# Altium footprint library HVPSlibrary.PcbLib: 149 footprints (part 6 of 11)
Each footprint in its own frame and in the unit in brackets; x right, y up, seen from the top. Pads: shape width x height; smd on the part's side, far side on the other; paste and mask are expansions set on the pad; w line width, h text height; cw(c..) or ccw(c..) is an arc to the next point about the centre after c.
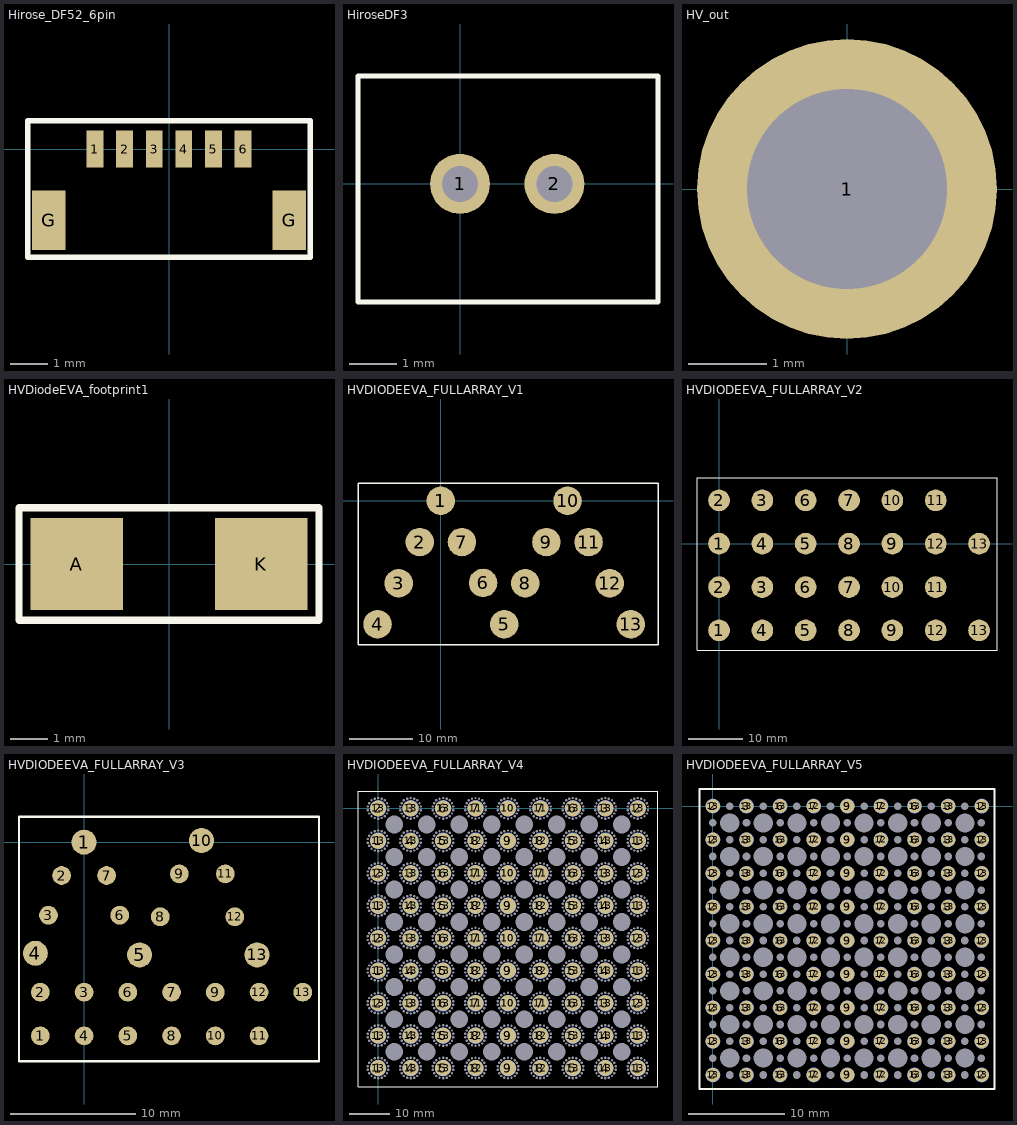
[diagram p5: the footprints below, top view; thin cyan lines are the x and y axes]

## Hirose_DF52_6pin [mm]
pads (8):
  rect 0.45x1 smd: 1(-2,0) 2(-1.2,0) 3(-0.4,0) 4(0.4,0) 5(1.2,0) 6(2,0)
  rect 0.9x1.6 smd: G(-3.25,-1.92) G(3.25,-1.92)
Top Overlay:
  lines w0.152: -3.81,-2.921 3.81,-2.921 3.81,0.762 0.889,0.762 -0.889,0.762 -3.81,0.762 -3.81,-2.921
3D body "DF52-6S-0.8H.stp": height 1.75, standoff 0, extent -3.444,-2.516 3.556,0.254
3D body "DF52-6P-0.8C.stp": height 1.54, standoff -0.11, extent -3.271,-3.81 3.429,-0.61

## HiroseDF3 [mil]
pads (2):
  round 50 hole 30: 1(0,0) 2(78.74,0)
Top Overlay:
  lines w3.94: -85,-98.43 165,-98.43 165,16.38 165,90 -85,90 -85,-98.43
3D body "DF3-2S-2DSA.stp": height 209.1, standoff -141.3, extent -78.11,-95.31 158.11,85

## HV_out [mm] "Output Connection"
pads (1):
  round 3.81 hole 2.54: 1(0,0)

## HVDiodeEVA_footprint1 [mm]
pads (2):
  rect 2.5x2.5 smd: A(-2.5,0) K(2.5,0)
Top Overlay:
  lines w0.2: -4.064,-1.524 -4.064,-0.936 -4.064,1.524 4.064,1.524 4.064,-1.524 -4.064,-1.524

## HVDIODEEVA_FULLARRAY_V1 [mm]
pads (13):
  round 4.5 smd: 1(0,0) 2(-3.333,-6.5) 3(-6.667,-13) 4(-10,-19.5) 5(10,-19.5) 6(6.667,-12.954) 7(3.333,-6.5) 8(13.333,-13) 9(16.667,-6.5) 10(20,0) 11(23.333,-6.5) 12(26.667,-13) 13(30,-19.5)
Top Overlay:
  lines w0.2: -13.081,-22.733 34.29,-22.733 34.29,2.794 -13.081,2.794 -13.081,-22.733
3D body "DO-214AA.stp": height 2.65, standoff 0, extent 11.986,-12.931 17.991,-6.166
3D body "DO-214AA.stp": height 2.65, standoff 0, extent 22.484,-12.528 28.705,-5.703
3D body "Diode SMA.stp": height 2.41, standoff 0, extent -7.501,-12.745 -2.444,-6.712
3D body "Diode SMA.stp": height 2.41, standoff 0, extent -4.834,-6.268 0.223,-0.235
3D body "X150FF3_Diode.STEP": height 2.16, standoff -2.16, extent -5.67,-15.368 5.57,-11.048
3D body "TO-252AA-Vishay.stp": height 2.39, standoff 0, extent 18.247,-23.276 30.521,-12.792
3D body "DO-214AA.stp": height 2.65, standoff 0, extent 14.653,-6.581 20.658,0.184
3D body "TO-252AA-Vishay.stp": height 2.39, standoff 0, extent 8.542,-24.151 20.922,-12.679
3D body "DO-214AA.stp": height 2.65, standoff 0, extent 19.936,-6.362 26.157,0.463
3D body "Diode SMA.stp": height 2.41, standoff 0, extent -0.278,-6.392 4.836,-0.358
3D body "DO-213AB.stp": height 2.6, standoff 0, extent -10.679,-18.866 -5.773,-13.07
3D body "DO-215AD.stp": height 1.35, standoff 0, extent 6.556,-18.348 9.954,-14.164
3D body "DeanTech_UX_F2CL15.STEP": height 2.15, standoff -2.15, extent -8.65,-21.835 8.65,-17.535
3D body "Diode SMA.stp": height 2.41, standoff 0, extent 2.516,-12.742 7.63,-6.708

## HVDIODEEVA_FULLARRAY_V2 [mm]
pads (26):
  round 4 smd: 1(0,-16) 1(0,0) 2(0,-8) 2(0,8) 3(8,-8.002) 3(8,8) 4(8,-16.002) 4(8,0) 5(16,-16.002) 5(16,0) 6(16,-8.002) 6(16,8) 7(24,-8.002) 7(24,8) 8(24,-16.002) 8(24,0) 9(32,-16.002) 9(32,0) 10(32,-8.002) 10(32,8) 11(40,-8.002) 11(40,8) 12(40,-16.002) 12(40,0) 13(48,-16.002) 13(48,0)
Top Overlay:
  lines w0.2: -4.064,-19.685 -4.064,12.192 51.308,12.192 51.308,-19.685 -4.064,-19.685
3D body "TO-252AA-Vishay.stp": height 2.39, standoff 0, extent 32.839,-18.034 39.551,-7.62
3D body "TO-252AA-Vishay.stp": height 2.39, standoff 0, extent 24.33,-17.907 31.042,-7.493
3D body "TO-252AA-Vishay.stp": height 2.39, standoff 0, extent 16.456,-17.78 23.168,-7.366
3D body "TO-252AA-Vishay.stp": height 2.39, standoff 0, extent 8.582,-17.78 15.294,-7.366
3D body "TO-252AA-Vishay.stp": height 2.39, standoff 0, extent 0.454,-17.78 7.166,-7.366
3D body "TO-252AA-Vishay.stp": height 2.39, standoff 0, extent 24.711,-0.381 31.423,10.033
3D body "TO-252AA-Vishay.stp": height 2.39, standoff 0, extent 16.964,-0.381 23.676,10.033
3D body "TO-252AA-Vishay.stp": height 2.39, standoff 0, extent 8.709,-0.635 15.421,9.779
3D body "TO-252AA-Vishay.stp": height 2.39, standoff 0, extent 0.581,-0.508 7.293,9.906
3D body "TO-252AA-Vishay.stp": height 2.39, standoff 0, extent 32.585,-0.508 39.297,9.906

## HVDIODEEVA_FULLARRAY_V3 [mm]
pads (26):
  round 1.5 smd: 1(-3.5,-15.5) 2(-3.5,-12) 2(-1.8,-2.667) 3(-2.85,-5.842) 3(0,-12) 4(0,-15.5) 5(3.5,-15.5) 6(2.85,-5.842) 6(3.5,-12) 7(1.8,-2.667) 7(7,-12) 8(6.096,-5.969) 8(7,-15.5) 9(7.62,-2.54) 9(10.5,-12) 10(10.5,-15.5) 11(11.303,-2.54) 11(14,-15.5) 12(12.065,-5.969) 12(14,-12) 13(17.5,-12)
  round 2 smd: 1(0,0) 4(-3.9,-8.89) 5(4.445,-9.017) 10(9.398,0.127) 13(13.843,-9.017)
Top Overlay:
  lines w0.2: -5.207,-17.526 -5.207,2.032 18.796,2.032 18.796,-17.526 -5.207,-17.526
3D body "ROHM_TUMD2SM.STEP": height 0.8, standoff 0, extent 4.034,-12.688 6.634,-11.188
3D body "ROHM_TUMD2SM.STEP": height 0.8, standoff 0, extent -0.75,-15.143 0.75,-12.543
3D body "DO-215AD.stp": height 1.35, standoff 0, extent 11.781,-10.212 14.533,-6.033
3D body "DO-215AD.stp": height 1.35, standoff 0, extent 10.627,-6.779 13.378,-2.6
3D body "DO-215AD.stp": height 1.35, standoff 0, extent 9.357,-2.969 12.108,1.21
3D body "DO-215AD.stp": height 1.35, standoff 0, extent 6.736,-3.034 9.904,1.174
3D body "DO-215AD.stp": height 1.35, standoff 0, extent 5.212,-6.463 8.38,-2.255
3D body "ROHM_TUMD2SM.STEP": height 0.8, standoff 0, extent -3.078,-12.688 -0.478,-11.188
3D body "ROHM_TUMD2SM.STEP": height 0.8, standoff 0, extent -4.306,-15.27 -2.806,-12.67
3D body "ROHM_TUMD2SM.STEP": height 0.8, standoff 0, extent 2.806,-15.143 4.306,-12.543
3D body "ROHM_TUMD2SM.STEP": height 0.8, standoff 0, extent 2.247,-8.852 4.611,-5.88
3D body "ROHM_TUMD2SM.STEP": height 0.8, standoff 0, extent 1.189,-5.78 3.383,-2.855
3D body "ROHM_TUMD2SM.STEP": height 0.8, standoff 0, extent -4.521,-8.842 -2.222,-5.885
3D body "ROHM_TUMD2SM.STEP": height 0.8, standoff 0, extent -0.143,-2.897 2.429,0.104
3D body "ROHM_TUMD2SM.STEP": height 0.8, standoff 0, extent -3.401,-5.659 -1.171,-2.723
3D body "ROHM_TUMD2SM.STEP": height 0.8, standoff 0, extent -2.387,-2.894 0.101,0.1
3D body "DO-215AD.stp": height 1.35, standoff 0, extent 3.657,-9.716 7.011,-5.524
3D body "ROHM_TUMD2SM.STEP": height 0.8, standoff 0, extent 6.235,-15.143 7.735,-12.543
3D body "DO-215AD.stp": height 1.35, standoff 0, extent 9.657,-15.654 11.357,-11.804
3D body "DO-215AD.stp": height 1.35, standoff 0, extent 10.14,-12.661 13.99,-10.961
3D body "DO-215AD.stp": height 1.35, standoff 0, extent 13.086,-15.654 14.786,-11.804

## HVDIODEEVA_FULLARRAY_V4 [mm]
pads (1684):
  round 0.3 hole 0.595 unplated: 0(-2.501,-64.441) 0(-2.501,-63.559) 0(-2.501,-56.441) 0(-2.501,-55.559) 0(-2.501,-48.441) 0(-2.501,-47.559) 0(-2.501,-40.441) 0(-2.501,-39.559) 0(-2.501,-32.441) 0(-2.501,-31.559) 0(-2.501,-24.441) 0(-2.501,-23.559) 0(-2.501,-16.441) 0(-2.501,-15.559) 0(-2.501,-8.441) 0(-2.501,-7.559) 0(-2.501,-0.441) 0(-2.501,0.441) 0(-2.2,-62.73) 0(-2.2,-54.73) 0(-2.2,-46.73) 0(-2.2,-38.73) 0(-2.2,-30.73) 0(-2.2,-22.73) 0(-2.2,-14.73) 0(-2.2,-6.73) 0(-2.2,1.27) 0(-2.2,-65.27) 0(-2.2,-57.27) 0(-2.2,-49.27) 0(-2.2,-41.27) 0(-2.2,-33.27) 0(-2.2,-25.27) 0(-2.2,-17.27) 0(-2.2,-9.27) 0(-2.2,-1.27) 0(-1.633,-62.054) 0(-1.633,-54.054) 0(-1.633,-46.054) 0(-1.633,-38.054) 0(-1.633,-30.054) 0(-1.633,-22.054) 0(-1.633,-14.054) 0(-1.633,-6.054) 0(-1.633,1.946) 0(-1.633,-65.946) 0(-1.633,-57.946) 0(-1.633,-49.946) 0(-1.633,-41.946) 0(-1.633,-33.946) 0(-1.633,-25.946) 0(-1.633,-17.946) 0(-1.633,-9.946) 0(-1.633,-1.946) 0(-0.869,-61.613) 0(-0.869,-53.613) 0(-0.869,-45.613) 0(-0.869,-37.613) 0(-0.869,-29.613) 0(-0.869,-21.613) 0(-0.869,-13.613) 0(-0.869,-5.613) 0(-0.869,2.387) 0(-0.869,-66.387) 0(-0.869,-58.387) 0(-0.869,-50.387) 0(-0.869,-42.387) 0(-0.869,-34.387) 0(-0.869,-26.387) 0(-0.869,-18.387) 0(-0.869,-10.387) 0(-0.869,-2.387) 0(0,-61.46) 0(0,-53.46) 0(0,-45.46) 0(0,-37.46) 0(0,-29.46) 0(0,-21.46) 0(0,-13.46) 0(0,-5.46) 0(0,2.54) 0(0,-66.54) 0(0,-58.54) 0(0,-50.54) 0(0,-42.54) 0(0,-34.54) 0(0,-26.54) 0(0,-18.54) 0(0,-10.54) 0(0,-2.54) 0(0.869,-61.613) 0(0.869,-53.613) 0(0.869,-45.613) 0(0.869,-37.613) 0(0.869,-29.613) 0(0.869,-21.613) 0(0.869,-13.613) 0(0.869,-5.613) 0(0.869,2.387) 0(0.869,-66.387) 0(0.869,-58.387) 0(0.869,-50.387) 0(0.869,-42.387) 0(0.869,-34.387) 0(0.869,-26.387) 0(0.869,-18.387) 0(0.869,-10.387) 0(0.869,-2.387) 0(1.633,-62.054) 0(1.633,-54.054) 0(1.633,-46.054) 0(1.633,-38.054) 0(1.633,-30.054) 0(1.633,-22.054) 0(1.633,-14.054) 0(1.633,-6.054) 0(1.633,1.946) 0(1.633,-65.946) 0(1.633,-57.946) 0(1.633,-49.946) 0(1.633,-41.946) 0(1.633,-33.946) 0(1.633,-25.946) 0(1.633,-17.946) 0(1.633,-9.946) 0(1.633,-1.946) 0(2.2,-62.73) 0(2.2,-54.73) 0(2.2,-46.73) 0(2.2,-38.73) 0(2.2,-30.73) 0(2.2,-22.73) 0(2.2,-14.73) 0(2.2,-6.73) 0(2.2,1.27) 0(2.2,-65.27) 0(2.2,-57.27) 0(2.2,-49.27) 0(2.2,-41.27) 0(2.2,-33.27) 0(2.2,-25.27) 0(2.2,-17.27) 0(2.2,-9.27) 0(2.2,-1.27) 0(2.501,-64.441) 0(2.501,-63.559) 0(2.501,-56.441) 0(2.501,-55.559) 0(2.501,-48.441) 0(2.501,-47.559) 0(2.501,-40.441) 0(2.501,-39.559) 0(2.501,-32.441) 0(2.501,-31.559) 0(2.501,-24.441) 0(2.501,-23.559) 0(2.501,-16.441) 0(2.501,-15.559) 0(2.501,-8.441) 0(2.501,-7.559) 0(2.501,-0.441) 0(2.501,0.441) 0(5.499,-64.441) 0(5.499,-63.559) 0(5.499,-56.441) 0(5.499,-55.559) 0(5.499,-48.441) 0(5.499,-47.559) 0(5.499,-40.441) 0(5.499,-39.559) 0(5.499,-32.441) 0(5.499,-31.559) 0(5.499,-24.441) 0(5.499,-23.559) 0(5.499,-16.441) 0(5.499,-15.559) 0(5.499,-8.441) 0(5.499,-7.559) 0(5.499,-0.441) 0(5.499,0.441) 0(5.8,-62.73) 0(5.8,-54.73) 0(5.8,-46.73) 0(5.8,-38.73) 0(5.8,-30.73) 0(5.8,-22.73) 0(5.8,-14.73) 0(5.8,-6.73) 0(5.8,1.27) 0(5.8,-65.27) 0(5.8,-57.27) 0(5.8,-49.27) 0(5.8,-41.27) 0(5.8,-33.27) 0(5.8,-25.27) 0(5.8,-17.27) 0(5.8,-9.27) 0(5.8,-1.27) 0(6.367,-62.054) 0(6.367,-54.054) 0(6.367,-46.054) 0(6.367,-38.054) 0(6.367,-30.054) 0(6.367,-22.054) 0(6.367,-14.054) 0(6.367,-6.054) 0(6.367,1.946) 0(6.367,-65.946) 0(6.367,-57.946) 0(6.367,-49.946) 0(6.367,-41.946) 0(6.367,-33.946) 0(6.367,-25.946) 0(6.367,-17.946) 0(6.367,-9.946) 0(6.367,-1.946) 0(7.131,-61.613) 0(7.131,-53.613) 0(7.131,-45.613) 0(7.131,-37.613) 0(7.131,-29.613) 0(7.131,-21.613) 0(7.131,-13.613) 0(7.131,-5.613) 0(7.131,2.387) 0(7.131,-66.387) 0(7.131,-58.387) 0(7.131,-50.387) 0(7.131,-42.387) 0(7.131,-34.387) 0(7.131,-26.387) 0(7.131,-18.387) 0(7.131,-10.387) 0(7.131,-2.387) 0(8,-61.46) 0(8,-53.46) 0(8,-45.46) 0(8,-37.46) 0(8,-29.46) 0(8,-21.46) 0(8,-13.46) 0(8,-5.46) 0(8,2.54) 0(8,-66.54) 0(8,-58.54) 0(8,-50.54) 0(8,-42.54) 0(8,-34.54) 0(8,-26.54) 0(8,-18.54) 0(8,-10.54) 0(8,-2.54) 0(8.869,-61.613) 0(8.869,-53.613) 0(8.869,-45.613) 0(8.869,-37.613) 0(8.869,-29.613) 0(8.869,-21.613) 0(8.869,-13.613) 0(8.869,-5.613) 0(8.869,2.387) 0(8.869,-66.387) 0(8.869,-58.387) 0(8.869,-50.387) 0(8.869,-42.387) 0(8.869,-34.387) 0(8.869,-26.387) 0(8.869,-18.387) 0(8.869,-10.387) 0(8.869,-2.387) 0(9.633,-62.054) 0(9.633,-54.054) 0(9.633,-46.054) 0(9.633,-38.054) 0(9.633,-30.054) 0(9.633,-22.054) 0(9.633,-14.054) 0(9.633,-6.054) 0(9.633,1.946) 0(9.633,-65.946) 0(9.633,-57.946) 0(9.633,-49.946) 0(9.633,-41.946) 0(9.633,-33.946) 0(9.633,-25.946) 0(9.633,-17.946) 0(9.633,-9.946) 0(9.633,-1.946) 0(10.2,-62.73) 0(10.2,-54.73) 0(10.2,-46.73) 0(10.2,-38.73) 0(10.2,-30.73) 0(10.2,-22.73) 0(10.2,-14.73) 0(10.2,-6.73) 0(10.2,1.27) 0(10.2,-65.27) 0(10.2,-57.27) 0(10.2,-49.27) 0(10.2,-41.27) 0(10.2,-33.27) 0(10.2,-25.27) 0(10.2,-17.27) 0(10.2,-9.27) 0(10.2,-1.27) 0(10.501,-64.441) 0(10.501,-63.559) 0(10.501,-56.441) 0(10.501,-55.559) 0(10.501,-48.441) 0(10.501,-47.559) 0(10.501,-40.441) 0(10.501,-39.559) 0(10.501,-32.441) 0(10.501,-31.559) 0(10.501,-24.441) 0(10.501,-23.559) 0(10.501,-16.441) 0(10.501,-15.559) 0(10.501,-8.441) 0(10.501,-7.559) 0(10.501,-0.441) 0(10.501,0.441) 0(13.499,-64.441) 0(13.499,-63.559) 0(13.499,-56.441) 0(13.499,-55.559) 0(13.499,-48.441) 0(13.499,-47.559) 0(13.499,-40.441) 0(13.499,-39.559) 0(13.499,-32.441) 0(13.499,-31.559) 0(13.499,-24.441) 0(13.499,-23.559) 0(13.499,-16.441) 0(13.499,-15.559) 0(13.499,-8.441) 0(13.499,-7.559) 0(13.499,-0.441) 0(13.499,0.441) 0(13.8,-62.73) 0(13.8,-54.73) 0(13.8,-46.73) 0(13.8,-38.73) 0(13.8,-30.73) 0(13.8,-22.73) 0(13.8,-14.73) 0(13.8,-6.73) 0(13.8,1.27) 0(13.8,-65.27) 0(13.8,-57.27) 0(13.8,-49.27) 0(13.8,-41.27) 0(13.8,-33.27) 0(13.8,-25.27) 0(13.8,-17.27) 0(13.8,-9.27) 0(13.8,-1.27) 0(14.367,-62.054) 0(14.367,-54.054) 0(14.367,-46.054) 0(14.367,-38.054) 0(14.367,-30.054) 0(14.367,-22.054) 0(14.367,-14.054) 0(14.367,-6.054) 0(14.367,1.946) 0(14.367,-65.946) 0(14.367,-57.946) 0(14.367,-49.946) 0(14.367,-41.946) 0(14.367,-33.946) 0(14.367,-25.946) 0(14.367,-17.946) 0(14.367,-9.946) 0(14.367,-1.946) 0(15.131,-61.613) 0(15.131,-53.613) 0(15.131,-45.613) 0(15.131,-37.613) 0(15.131,-29.613) 0(15.131,-21.613) 0(15.131,-13.613) 0(15.131,-5.613) 0(15.131,2.387) 0(15.131,-66.387) 0(15.131,-58.387) 0(15.131,-50.387) 0(15.131,-42.387) 0(15.131,-34.387) 0(15.131,-26.387) 0(15.131,-18.387) 0(15.131,-10.387) 0(15.131,-2.387) 0(16,-61.46) 0(16,-53.46) 0(16,-45.46) 0(16,-37.46) 0(16,-29.46) 0(16,-21.46) 0(16,-13.46) 0(16,-5.46) 0(16,2.54) 0(16,-66.54) 0(16,-58.54) 0(16,-50.54) 0(16,-42.54) 0(16,-34.54) 0(16,-26.54) 0(16,-18.54) 0(16,-10.54) 0(16,-2.54) 0(16.869,-61.613) 0(16.869,-53.613) 0(16.869,-45.613) 0(16.869,-37.613) 0(16.869,-29.613) 0(16.869,-21.613) 0(16.869,-13.613) 0(16.869,-5.613) 0(16.869,2.387) 0(16.869,-66.387) 0(16.869,-58.387) 0(16.869,-50.387) 0(16.869,-42.387) 0(16.869,-34.387) 0(16.869,-26.387) 0(16.869,-18.387) 0(16.869,-10.387) 0(16.869,-2.387) 0(17.633,-62.054) 0(17.633,-54.054) 0(17.633,-46.054) 0(17.633,-38.054) 0(17.633,-30.054) 0(17.633,-22.054) 0(17.633,-14.054) 0(17.633,-6.054) 0(17.633,1.946) 0(17.633,-65.946) 0(17.633,-57.946) 0(17.633,-49.946) 0(17.633,-41.946) 0(17.633,-33.946) 0(17.633,-25.946) 0(17.633,-17.946) 0(17.633,-9.946) 0(17.633,-1.946) 0(18.2,-62.73) 0(18.2,-54.73) 0(18.2,-46.73) 0(18.2,-38.73) 0(18.2,-30.73) 0(18.2,-22.73) 0(18.2,-14.73) 0(18.2,-6.73) 0(18.2,1.27) 0(18.2,-65.27) 0(18.2,-57.27) 0(18.2,-49.27) 0(18.2,-41.27) 0(18.2,-33.27) 0(18.2,-25.27) 0(18.2,-17.27) 0(18.2,-9.27) 0(18.2,-1.27) 0(18.501,-64.441) 0(18.501,-63.559) 0(18.501,-56.441) 0(18.501,-55.559) 0(18.501,-48.441) 0(18.501,-47.559) 0(18.501,-40.441) 0(18.501,-39.559) 0(18.501,-32.441) 0(18.501,-31.559) 0(18.501,-24.441) 0(18.501,-23.559) 0(18.501,-16.441) 0(18.501,-15.559) 0(18.501,-8.441) 0(18.501,-7.559) 0(18.501,-0.441) 0(18.501,0.441) 0(21.499,-64.441) 0(21.499,-63.559) 0(21.499,-56.441) 0(21.499,-55.559) 0(21.499,-48.441) 0(21.499,-47.559) 0(21.499,-40.441) 0(21.499,-39.559) 0(21.499,-32.441) 0(21.499,-31.559) 0(21.499,-24.441) 0(21.499,-23.559) 0(21.499,-16.441) 0(21.499,-15.559) 0(21.499,-8.441) 0(21.499,-7.559) 0(21.499,-0.441) 0(21.499,0.441) 0(21.8,-62.73) 0(21.8,-54.73) 0(21.8,-46.73) 0(21.8,-38.73) 0(21.8,-30.73) 0(21.8,-22.73) 0(21.8,-14.73) 0(21.8,-6.73) 0(21.8,1.27) 0(21.8,-65.27) 0(21.8,-57.27) 0(21.8,-49.27) 0(21.8,-41.27) 0(21.8,-33.27) 0(21.8,-25.27) 0(21.8,-17.27) 0(21.8,-9.27) 0(21.8,-1.27) 0(22.367,-62.054) 0(22.367,-54.054) 0(22.367,-46.054) 0(22.367,-38.054) 0(22.367,-30.054) 0(22.367,-22.054) 0(22.367,-14.054) 0(22.367,-6.054) 0(22.367,1.946) 0(22.367,-65.946) 0(22.367,-57.946) 0(22.367,-49.946) 0(22.367,-41.946) 0(22.367,-33.946) 0(22.367,-25.946) 0(22.367,-17.946) 0(22.367,-9.946) 0(22.367,-1.946) 0(23.131,-61.613) 0(23.131,-53.613) 0(23.131,-45.613) 0(23.131,-37.613) 0(23.131,-29.613) 0(23.131,-21.613) 0(23.131,-13.613) 0(23.131,-5.613) 0(23.131,2.387) 0(23.131,-66.387) 0(23.131,-58.387) 0(23.131,-50.387) 0(23.131,-42.387) 0(23.131,-34.387) 0(23.131,-26.387) 0(23.131,-18.387) 0(23.131,-10.387) 0(23.131,-2.387) 0(24,-61.46) 0(24,-53.46) 0(24,-45.46) 0(24,-37.46) 0(24,-29.46) 0(24,-21.46) 0(24,-13.46) 0(24,-5.46) 0(24,2.54) 0(24,-66.54) 0(24,-58.54) 0(24,-50.54) 0(24,-42.54) 0(24,-34.54) 0(24,-26.54) 0(24,-18.54) 0(24,-10.54) 0(24,-2.54) 0(24.869,-61.613) 0(24.869,-53.613) 0(24.869,-45.613) 0(24.869,-37.613) 0(24.869,-29.613) 0(24.869,-21.613) 0(24.869,-13.613) 0(24.869,-5.613) 0(24.869,2.387) 0(24.869,-66.387) 0(24.869,-58.387) 0(24.869,-50.387) 0(24.869,-42.387) 0(24.869,-34.387) 0(24.869,-26.387) 0(24.869,-18.387) 0(24.869,-10.387) 0(24.869,-2.387) 0(25.633,-62.054) 0(25.633,-54.054) 0(25.633,-46.054) 0(25.633,-38.054) 0(25.633,-30.054) 0(25.633,-22.054) 0(25.633,-14.054) 0(25.633,-6.054) 0(25.633,1.946) 0(25.633,-65.946) 0(25.633,-57.946) 0(25.633,-49.946) 0(25.633,-41.946) 0(25.633,-33.946) 0(25.633,-25.946) 0(25.633,-17.946) 0(25.633,-9.946) 0(25.633,-1.946) 0(26.2,-62.73) 0(26.2,-54.73) 0(26.2,-46.73) 0(26.2,-38.73) 0(26.2,-30.73) 0(26.2,-22.73) 0(26.2,-14.73) 0(26.2,-6.73) 0(26.2,1.27) 0(26.2,-65.27) 0(26.2,-57.27) 0(26.2,-49.27) 0(26.2,-41.27) 0(26.2,-33.27) 0(26.2,-25.27) 0(26.2,-17.27) 0(26.2,-9.27) 0(26.2,-1.27) 0(26.501,-64.441) 0(26.501,-63.559) 0(26.501,-56.441) 0(26.501,-55.559) 0(26.501,-48.441) 0(26.501,-47.559) 0(26.501,-40.441) 0(26.501,-39.559) 0(26.501,-32.441) 0(26.501,-31.559) 0(26.501,-24.441) 0(26.501,-23.559) 0(26.501,-16.441) 0(26.501,-15.559) 0(26.501,-8.441) 0(26.501,-7.559) 0(26.501,-0.441) 0(26.501,0.441) 0(29.499,-64.441) 0(29.499,-63.559) 0(29.499,-56.441) 0(29.499,-55.559) 0(29.499,-48.441) 0(29.499,-47.559) 0(29.499,-40.441) 0(29.499,-39.559) 0(29.499,-32.441) 0(29.499,-31.559) 0(29.499,-24.441) 0(29.499,-23.559) 0(29.499,-16.441) 0(29.499,-15.559) 0(29.499,-8.441) 0(29.499,-7.559) 0(29.499,-0.441) 0(29.499,0.441) 0(29.8,-62.73) 0(29.8,-54.73) 0(29.8,-46.73) 0(29.8,-38.73) 0(29.8,-30.73) 0(29.8,-22.73) 0(29.8,-14.73) 0(29.8,-6.73) 0(29.8,1.27) 0(29.8,-65.27) 0(29.8,-57.27) 0(29.8,-49.27) 0(29.8,-41.27) 0(29.8,-33.27) 0(29.8,-25.27) 0(29.8,-17.27) 0(29.8,-9.27) 0(29.8,-1.27) 0(30.367,-62.054) 0(30.367,-54.054) 0(30.367,-46.054) 0(30.367,-38.054) 0(30.367,-30.054) 0(30.367,-22.054) 0(30.367,-14.054) 0(30.367,-6.054) 0(30.367,1.946) 0(30.367,-65.946) 0(30.367,-57.946) 0(30.367,-49.946) 0(30.367,-41.946) 0(30.367,-33.946) 0(30.367,-25.946) 0(30.367,-17.946) 0(30.367,-9.946) 0(30.367,-1.946) 0(31.131,-61.613) 0(31.131,-53.613) 0(31.131,-45.613) 0(31.131,-37.613) 0(31.131,-29.613) 0(31.131,-21.613) 0(31.131,-13.613) 0(31.131,-5.613) 0(31.131,2.387) 0(31.131,-66.387) 0(31.131,-58.387) 0(31.131,-50.387) 0(31.131,-42.387) 0(31.131,-34.387) 0(31.131,-26.387) 0(31.131,-18.387) 0(31.131,-10.387) 0(31.131,-2.387) 0(32,-61.46) 0(32,-53.46) 0(32,-45.46) 0(32,-37.46) 0(32,-29.46) 0(32,-21.46) 0(32,-13.46) 0(32,-5.46) 0(32,2.54) 0(32,-66.54) 0(32,-58.54) 0(32,-50.54) 0(32,-42.54) 0(32,-34.54) 0(32,-26.54) 0(32,-18.54) 0(32,-10.54) 0(32,-2.54) 0(32.869,-61.613) 0(32.869,-53.613) 0(32.869,-45.613) 0(32.869,-37.613) 0(32.869,-29.613) 0(32.869,-21.613) 0(32.869,-13.613) 0(32.869,-5.613) 0(32.869,2.387) 0(32.869,-66.387) 0(32.869,-58.387) 0(32.869,-50.387) 0(32.869,-42.387) 0(32.869,-34.387) 0(32.869,-26.387) 0(32.869,-18.387) 0(32.869,-10.387) 0(32.869,-2.387) 0(33.633,-62.054) 0(33.633,-54.054) 0(33.633,-46.054) 0(33.633,-38.054) 0(33.633,-30.054) 0(33.633,-22.054) 0(33.633,-14.054) 0(33.633,-6.054) 0(33.633,1.946) 0(33.633,-65.946) 0(33.633,-57.946) 0(33.633,-49.946) 0(33.633,-41.946) 0(33.633,-33.946) 0(33.633,-25.946) 0(33.633,-17.946) 0(33.633,-9.946) 0(33.633,-1.946) 0(34.2,-62.73) 0(34.2,-54.73) 0(34.2,-46.73) 0(34.2,-38.73) 0(34.2,-30.73) 0(34.2,-22.73) 0(34.2,-14.73) 0(34.2,-6.73) 0(34.2,1.27) 0(34.2,-65.27) 0(34.2,-57.27) 0(34.2,-49.27) 0(34.2,-41.27) 0(34.2,-33.27) 0(34.2,-25.27) 0(34.2,-17.27) 0(34.2,-9.27) 0(34.2,-1.27) 0(34.501,-64.441) 0(34.501,-63.559) 0(34.501,-56.441) 0(34.501,-55.559) 0(34.501,-48.441) 0(34.501,-47.559) 0(34.501,-40.441) 0(34.501,-39.559) 0(34.501,-32.441) 0(34.501,-31.559) 0(34.501,-24.441) 0(34.501,-23.559) 0(34.501,-16.441) 0(34.501,-15.559) 0(34.501,-8.441) 0(34.501,-7.559) 0(34.501,-0.441) 0(34.501,0.441) 0(37.499,-64.441) 0(37.499,-63.559) 0(37.499,-56.441) 0(37.499,-55.559) 0(37.499,-48.441) 0(37.499,-47.559) 0(37.499,-40.441) 0(37.499,-39.559) 0(37.499,-32.441) 0(37.499,-31.559) 0(37.499,-24.441) 0(37.499,-23.559) 0(37.499,-16.441) 0(37.499,-15.559) 0(37.499,-8.441) 0(37.499,-7.559) 0(37.499,-0.441) 0(37.499,0.441) 0(37.8,-62.73) 0(37.8,-54.73) 0(37.8,-46.73) 0(37.8,-38.73) 0(37.8,-30.73) 0(37.8,-22.73) 0(37.8,-14.73) 0(37.8,-6.73) 0(37.8,1.27) 0(37.8,-65.27) 0(37.8,-57.27) 0(37.8,-49.27) 0(37.8,-41.27) 0(37.8,-33.27) 0(37.8,-25.27) 0(37.8,-17.27) 0(37.8,-9.27) 0(37.8,-1.27) 0(38.367,-62.054) 0(38.367,-54.054) 0(38.367,-46.054) 0(38.367,-38.054) 0(38.367,-30.054) 0(38.367,-22.054) 0(38.367,-14.054) 0(38.367,-6.054) 0(38.367,1.946) 0(38.367,-65.946) 0(38.367,-57.946) 0(38.367,-49.946) 0(38.367,-41.946) 0(38.367,-33.946) 0(38.367,-25.946) 0(38.367,-17.946) 0(38.367,-9.946) 0(38.367,-1.946) 0(39.131,-61.613) 0(39.131,-53.613) 0(39.131,-45.613) 0(39.131,-37.613) 0(39.131,-29.613) 0(39.131,-21.613) 0(39.131,-13.613) 0(39.131,-5.613) 0(39.131,2.387) 0(39.131,-66.387) 0(39.131,-58.387) 0(39.131,-50.387) 0(39.131,-42.387) 0(39.131,-34.387) 0(39.131,-26.387) 0(39.131,-18.387) 0(39.131,-10.387) 0(39.131,-2.387) 0(40,-61.46) 0(40,-53.46) 0(40,-45.46) 0(40,-37.46) 0(40,-29.46) 0(40,-21.46) 0(40,-13.46) 0(40,-5.46) 0(40,2.54) 0(40,-66.54) 0(40,-58.54) 0(40,-50.54) 0(40,-42.54) 0(40,-34.54) 0(40,-26.54) 0(40,-18.54) 0(40,-10.54) 0(40,-2.54) 0(40.869,-61.613) 0(40.869,-53.613) 0(40.869,-45.613) 0(40.869,-37.613) 0(40.869,-29.613) 0(40.869,-21.613) 0(40.869,-13.613) 0(40.869,-5.613) 0(40.869,2.387) 0(40.869,-66.387) 0(40.869,-58.387) 0(40.869,-50.387) 0(40.869,-42.387) 0(40.869,-34.387) 0(40.869,-26.387) 0(40.869,-18.387) 0(40.869,-10.387) 0(40.869,-2.387) 0(41.633,-62.054) 0(41.633,-54.054) 0(41.633,-46.054) 0(41.633,-38.054) 0(41.633,-30.054) 0(41.633,-22.054) 0(41.633,-14.054) 0(41.633,-6.054) 0(41.633,1.946) 0(41.633,-65.946) 0(41.633,-57.946) 0(41.633,-49.946) 0(41.633,-41.946) 0(41.633,-33.946) 0(41.633,-25.946) 0(41.633,-17.946) 0(41.633,-9.946) 0(41.633,-1.946) 0(42.2,-62.73) 0(42.2,-54.73) 0(42.2,-46.73) 0(42.2,-38.73) 0(42.2,-30.73) 0(42.2,-22.73) 0(42.2,-14.73) 0(42.2,-6.73) 0(42.2,1.27) 0(42.2,-65.27) 0(42.2,-57.27) 0(42.2,-49.27) 0(42.2,-41.27) 0(42.2,-33.27) 0(42.2,-25.27) 0(42.2,-17.27) 0(42.2,-9.27) 0(42.2,-1.27) 0(42.501,-64.441) 0(42.501,-63.559) 0(42.501,-56.441) 0(42.501,-55.559) 0(42.501,-48.441) 0(42.501,-47.559) 0(42.501,-40.441) 0(42.501,-39.559) 0(42.501,-32.441) 0(42.501,-31.559) 0(42.501,-24.441) 0(42.501,-23.559) 0(42.501,-16.441) 0(42.501,-15.559) 0(42.501,-8.441) 0(42.501,-7.559) 0(42.501,-0.441) 0(42.501,0.441) 0(45.499,-64.441) 0(45.499,-63.559) 0(45.499,-56.441) 0(45.499,-55.559) 0(45.499,-48.441) 0(45.499,-47.559) 0(45.499,-40.441) 0(45.499,-39.559) 0(45.499,-32.441) 0(45.499,-31.559) 0(45.499,-24.441) 0(45.499,-23.559) 0(45.499,-16.441) 0(45.499,-15.559) 0(45.499,-8.441) 0(45.499,-7.559) 0(45.499,-0.441) 0(45.499,0.441) 0(45.8,-62.73) 0(45.8,-54.73) 0(45.8,-46.73) 0(45.8,-38.73) 0(45.8,-30.73) 0(45.8,-22.73) 0(45.8,-14.73) 0(45.8,-6.73) 0(45.8,1.27) 0(45.8,-65.27) 0(45.8,-57.27) 0(45.8,-49.27) 0(45.8,-41.27) 0(45.8,-33.27) 0(45.8,-25.27) 0(45.8,-17.27) 0(45.8,-9.27) 0(45.8,-1.27) 0(46.367,-62.054) 0(46.367,-54.054) 0(46.367,-46.054) 0(46.367,-38.054) 0(46.367,-30.054) 0(46.367,-22.054) 0(46.367,-14.054) 0(46.367,-6.054) 0(46.367,1.946) 0(46.367,-65.946) 0(46.367,-57.946) 0(46.367,-49.946) 0(46.367,-41.946) 0(46.367,-33.946) 0(46.367,-25.946) 0(46.367,-17.946) 0(46.367,-9.946) 0(46.367,-1.946) 0(47.131,-61.613) 0(47.131,-53.613) 0(47.131,-45.613) 0(47.131,-37.613) 0(47.131,-29.613) 0(47.131,-21.613) 0(47.131,-13.613) 0(47.131,-5.613) 0(47.131,2.387) 0(47.131,-66.387) 0(47.131,-58.387) 0(47.131,-50.387) 0(47.131,-42.387) 0(47.131,-34.387) 0(47.131,-26.387) 0(47.131,-18.387) 0(47.131,-10.387) 0(47.131,-2.387) 0(48,-61.46) 0(48,-53.46) 0(48,-45.46) 0(48,-37.46) 0(48,-29.46) 0(48,-21.46) 0(48,-13.46) 0(48,-5.46) 0(48,2.54) 0(48,-66.54) 0(48,-58.54) 0(48,-50.54) 0(48,-42.54) 0(48,-34.54) 0(48,-26.54) 0(48,-18.54) 0(48,-10.54) 0(48,-2.54) 0(48.869,-61.613) 0(48.869,-53.613) 0(48.869,-45.613) 0(48.869,-37.613) 0(48.869,-29.613) 0(48.869,-21.613) 0(48.869,-13.613) 0(48.869,-5.613) 0(48.869,2.387) 0(48.869,-66.387) 0(48.869,-58.387) 0(48.869,-50.387) 0(48.869,-42.387) 0(48.869,-34.387) 0(48.869,-26.387) 0(48.869,-18.387) 0(48.869,-10.387) 0(48.869,-2.387) 0(49.633,-62.054) 0(49.633,-54.054) 0(49.633,-46.054) 0(49.633,-38.054) 0(49.633,-30.054) 0(49.633,-22.054) 0(49.633,-14.054) 0(49.633,-6.054) 0(49.633,1.946) 0(49.633,-65.946) 0(49.633,-57.946) 0(49.633,-49.946) 0(49.633,-41.946) 0(49.633,-33.946) 0(49.633,-25.946) 0(49.633,-17.946) 0(49.633,-9.946) 0(49.633,-1.946) 0(50.2,-62.73) 0(50.2,-54.73) 0(50.2,-46.73) 0(50.2,-38.73) 0(50.2,-30.73) 0(50.2,-22.73) 0(50.2,-14.73) 0(50.2,-6.73) 0(50.2,1.27) 0(50.2,-65.27) 0(50.2,-57.27) 0(50.2,-49.27) 0(50.2,-41.27) 0(50.2,-33.27) 0(50.2,-25.27) 0(50.2,-17.27) 0(50.2,-9.27) 0(50.2,-1.27) 0(50.501,-64.441) 0(50.501,-63.559) 0(50.501,-56.441) 0(50.501,-55.559) 0(50.501,-48.441) 0(50.501,-47.559) 0(50.501,-40.441) 0(50.501,-39.559) 0(50.501,-32.441) 0(50.501,-31.559) 0(50.501,-24.441) 0(50.501,-23.559) 0(50.501,-16.441) 0(50.501,-15.559) 0(50.501,-8.441) 0(50.501,-7.559) 0(50.501,-0.441) 0(50.501,0.441) 0(53.499,-64.441) 0(53.499,-63.559) 0(53.499,-56.441) 0(53.499,-55.559) 0(53.499,-48.441) 0(53.499,-47.559) 0(53.499,-40.441) 0(53.499,-39.559) 0(53.499,-32.441) 0(53.499,-31.559) 0(53.499,-24.441) 0(53.499,-23.559) 0(53.499,-16.441) 0(53.499,-15.559) 0(53.499,-8.441) 0(53.499,-7.559) 0(53.499,-0.441) 0(53.499,0.441) 0(53.8,-62.73) 0(53.8,-54.73) 0(53.8,-46.73) 0(53.8,-38.73) 0(53.8,-30.73) 0(53.8,-22.73) 0(53.8,-14.73) 0(53.8,-6.73) 0(53.8,1.27) 0(53.8,-65.27) 0(53.8,-57.27) 0(53.8,-49.27) 0(53.8,-41.27) 0(53.8,-33.27) 0(53.8,-25.27) 0(53.8,-17.27) 0(53.8,-9.27) 0(53.8,-1.27) 0(54.367,-62.054) 0(54.367,-54.054) 0(54.367,-46.054) 0(54.367,-38.054) 0(54.367,-30.054) 0(54.367,-22.054) 0(54.367,-14.054) 0(54.367,-6.054) 0(54.367,1.946) 0(54.367,-65.946) 0(54.367,-57.946) 0(54.367,-49.946) 0(54.367,-41.946) 0(54.367,-33.946) 0(54.367,-25.946) 0(54.367,-17.946) 0(54.367,-9.946) 0(54.367,-1.946) 0(55.131,-61.613) 0(55.131,-53.613) 0(55.131,-45.613) 0(55.131,-37.613) 0(55.131,-29.613) 0(55.131,-21.613) 0(55.131,-13.613) 0(55.131,-5.613) 0(55.131,2.387) 0(55.131,-66.387) 0(55.131,-58.387) 0(55.131,-50.387) 0(55.131,-42.387) 0(55.131,-34.387) 0(55.131,-26.387) 0(55.131,-18.387) 0(55.131,-10.387) 0(55.131,-2.387) 0(56,-61.46) 0(56,-53.46) 0(56,-45.46) 0(56,-37.46) 0(56,-29.46) 0(56,-21.46) 0(56,-13.46) 0(56,-5.46) 0(56,2.54) 0(56,-66.54) 0(56,-58.54) 0(56,-50.54) 0(56,-42.54) 0(56,-34.54) 0(56,-26.54) 0(56,-18.54) 0(56,-10.54) 0(56,-2.54) 0(56.869,-61.613) 0(56.869,-53.613) 0(56.869,-45.613) 0(56.869,-37.613) 0(56.869,-29.613) 0(56.869,-21.613) 0(56.869,-13.613) 0(56.869,-5.613) 0(56.869,2.387) 0(56.869,-66.387) 0(56.869,-58.387) 0(56.869,-50.387) 0(56.869,-42.387) 0(56.869,-34.387) 0(56.869,-26.387) 0(56.869,-18.387) 0(56.869,-10.387) 0(56.869,-2.387) 0(57.633,-62.054) 0(57.633,-54.054) 0(57.633,-46.054) 0(57.633,-38.054) 0(57.633,-30.054) 0(57.633,-22.054) 0(57.633,-14.054) 0(57.633,-6.054) 0(57.633,1.946) 0(57.633,-65.946) 0(57.633,-57.946) 0(57.633,-49.946) 0(57.633,-41.946) 0(57.633,-33.946) 0(57.633,-25.946) 0(57.633,-17.946) 0(57.633,-9.946) 0(57.633,-1.946) 0(58.2,-62.73) 0(58.2,-54.73) 0(58.2,-46.73) 0(58.2,-38.73) 0(58.2,-30.73) 0(58.2,-22.73) 0(58.2,-14.73) 0(58.2,-6.73) 0(58.2,1.27) 0(58.2,-65.27) 0(58.2,-57.27) 0(58.2,-49.27) 0(58.2,-41.27) 0(58.2,-33.27) 0(58.2,-25.27) 0(58.2,-17.27) 0(58.2,-9.27) 0(58.2,-1.27) 0(58.501,-64.441) 0(58.501,-63.559) 0(58.501,-56.441) 0(58.501,-55.559) 0(58.501,-48.441) 0(58.501,-47.559) 0(58.501,-40.441) 0(58.501,-39.559) 0(58.501,-32.441) 0(58.501,-31.559) 0(58.501,-24.441) 0(58.501,-23.559) 0(58.501,-16.441) 0(58.501,-15.559) 0(58.501,-8.441) 0(58.501,-7.559) 0(58.501,-0.441) 0(58.501,0.441) 0(61.499,-64.441) 0(61.499,-63.559) 0(61.499,-56.441) 0(61.499,-55.559) 0(61.499,-48.441) 0(61.499,-47.559) 0(61.499,-40.441) 0(61.499,-39.559) 0(61.499,-32.441) 0(61.499,-31.559) 0(61.499,-24.441) 0(61.499,-23.559) 0(61.499,-16.441) 0(61.499,-15.559) 0(61.499,-8.441) 0(61.499,-7.559) 0(61.499,-0.441) 0(61.499,0.441) 0(61.8,-62.73) 0(61.8,-54.73) 0(61.8,-46.73) 0(61.8,-38.73) 0(61.8,-30.73) 0(61.8,-22.73) 0(61.8,-14.73) 0(61.8,-6.73) 0(61.8,1.27) 0(61.8,-65.27) 0(61.8,-57.27) 0(61.8,-49.27) 0(61.8,-41.27) 0(61.8,-33.27) 0(61.8,-25.27) 0(61.8,-17.27) 0(61.8,-9.27) 0(61.8,-1.27) 0(62.367,-62.054) 0(62.367,-54.054) 0(62.367,-46.054) 0(62.367,-38.054) 0(62.367,-30.054) 0(62.367,-22.054) 0(62.367,-14.054) 0(62.367,-6.054) 0(62.367,1.946) 0(62.367,-65.946) 0(62.367,-57.946) 0(62.367,-49.946) 0(62.367,-41.946) 0(62.367,-33.946) 0(62.367,-25.946) 0(62.367,-17.946) 0(62.367,-9.946) 0(62.367,-1.946) 0(63.131,-61.613) 0(63.131,-53.613) 0(63.131,-45.613) 0(63.131,-37.613) 0(63.131,-29.613) 0(63.131,-21.613) 0(63.131,-13.613) 0(63.131,-5.613) 0(63.131,2.387) 0(63.131,-66.387) 0(63.131,-58.387) 0(63.131,-50.387) 0(63.131,-42.387) 0(63.131,-34.387) 0(63.131,-26.387) 0(63.131,-18.387) 0(63.131,-10.387) 0(63.131,-2.387) 0(64,-61.46) 0(64,-53.46) 0(64,-45.46) 0(64,-37.46) 0(64,-29.46) 0(64,-21.46) 0(64,-13.46) 0(64,-5.46) 0(64,2.54) 0(64,-66.54) 0(64,-58.54) 0(64,-50.54) 0(64,-42.54) 0(64,-34.54) 0(64,-26.54) 0(64,-18.54) 0(64,-10.54) 0(64,-2.54) 0(64.869,-61.613) 0(64.869,-53.613) 0(64.869,-45.613) 0(64.869,-37.613) 0(64.869,-29.613) 0(64.869,-21.613) 0(64.869,-13.613) 0(64.869,-5.613) 0(64.869,2.387) 0(64.869,-66.387) 0(64.869,-58.387) 0(64.869,-50.387) 0(64.869,-42.387) 0(64.869,-34.387) 0(64.869,-26.387) 0(64.869,-18.387) 0(64.869,-10.387) 0(64.869,-2.387) 0(65.633,-62.054) 0(65.633,-54.054) 0(65.633,-46.054) 0(65.633,-38.054) 0(65.633,-30.054) 0(65.633,-22.054) 0(65.633,-14.054) 0(65.633,-6.054) 0(65.633,1.946) 0(65.633,-65.946) 0(65.633,-57.946) 0(65.633,-49.946) 0(65.633,-41.946) 0(65.633,-33.946) 0(65.633,-25.946) 0(65.633,-17.946) 0(65.633,-9.946) 0(65.633,-1.946) 0(66.2,-62.73) 0(66.2,-54.73) 0(66.2,-46.73) 0(66.2,-38.73) 0(66.2,-30.73) 0(66.2,-22.73) 0(66.2,-14.73) 0(66.2,-6.73) 0(66.2,1.27) 0(66.2,-65.27) 0(66.2,-57.27) 0(66.2,-49.27) 0(66.2,-41.27) 0(66.2,-33.27) 0(66.2,-25.27) 0(66.2,-17.27) 0(66.2,-9.27) 0(66.2,-1.27) 0(66.501,-64.441) 0(66.501,-63.559) 0(66.501,-56.441) 0(66.501,-55.559) 0(66.501,-48.441) 0(66.501,-47.559) 0(66.501,-40.441) 0(66.501,-39.559) 0(66.501,-32.441) 0(66.501,-31.559) 0(66.501,-24.441) 0(66.501,-23.559) 0(66.501,-16.441) 0(66.501,-15.559) 0(66.501,-8.441) 0(66.501,-7.559) 0(66.501,-0.441) 0(66.501,0.441)
  round 1 hole 4.366 unplated: 0(4,-60) 0(4,-52) 0(4,-44) 0(4,-36) 0(4,-28) 0(4,-20) 0(4,-12) 0(4,-4) 0(12,-60) 0(12,-52) 0(12,-44) 0(12,-36) 0(12,-28) 0(12,-20) 0(12,-12) 0(12,-4) 0(20,-60) 0(20,-52) 0(20,-44) 0(20,-36) 0(20,-28) 0(20,-20) 0(20,-12) 0(20,-4) 0(28,-60) 0(28,-52) 0(28,-44) 0(28,-36) 0(28,-28) 0(28,-20) 0(28,-12) 0(28,-4) 0(36,-60) 0(36,-52) 0(36,-44) 0(36,-36) 0(36,-28) 0(36,-20) 0(36,-12) 0(36,-4) 0(44,-60) 0(44,-52) 0(44,-44) 0(44,-36) 0(44,-28) 0(44,-20) 0(44,-12) 0(44,-4) 0(52,-60) 0(52,-52) 0(52,-44) 0(52,-36) 0(52,-28) 0(52,-20) 0(52,-12) 0(52,-4) 0(60,-60) 0(60,-52) 0(60,-44) 0(60,-36) 0(60,-28) 0(60,-20) 0(60,-12) 0(60,-4)
  round 4 smd: 1(0,-64) 1(0,-56) 1(0,-40) 1(0,-24) 1(0,-8) 2(0,-48) 2(0,-32) 2(0,-16) 2(0,0) 3(8,-48) 3(8,-32) 3(8,-16.002) 3(8,0) 4(8,-64) 4(8,-56) 4(8,-40) 4(8,-24.002) 4(8,-8) 5(16,-64) 5(16,-56) 5(16,-40) 5(16,-24.002) 5(16,-8) 6(16,-48) 6(16,-32) 6(16,0) 6(16,-16.002) 7(24,-48) 7(24,-32) 7(24,0) 7(24,-16.002) 8(24,-64) 8(24,-56) 8(24,-40) 8(24,-24.002) 8(24,-8) 9(32,-64) 9(32,-56) 9(32,-40) 9(32,-24.002) 9(32,-8) 10(32,-48) 10(32,-32) 10(32,0) 10(32,-16.002) 11(40,-48) 11(40,-32) 11(40,0) 11(40,-16.002) 12(40,-64) 12(40,-56) 12(40,-40) 12(40,-24.002) 12(40,-8) 13(48,-64) 13(48,-56) 13(48,-40) 13(48,0) 13(48,-48) 13(48,-32) 13(48,-24.002) 13(48,-16) 13(48,-8) 13(56,0) 13(56,-64) 13(56,-56) 13(56,-48) 13(56,-40) 13(56,-32) 13(56,-24) 13(56,-16) 13(56,-8) 13(64,0) 13(64,-64) 13(64,-56) 13(64,-48) 13(64,-40) 13(64,-32) 13(64,-24) 13(64,-16) 13(64,-8)
  round 4 smd far side: 1(64.002,-64.005) 1(64.002,-56.005) 1(64.002,-40.005) 1(64.002,-24.005) 1(64.002,-8.005) 2(64.002,-48.005) 2(64.002,-32.005) 2(64.002,-16.005) 2(64.002,-0.005) 3(56.002,-48.005) 3(56.002,-32.005) 3(56.002,-16.007) 3(56.002,-0.005) 4(56.002,-64.005) 4(56.002,-56.005) 4(56.002,-40.005) 4(56.002,-24.007) 4(56.002,-8.005) 5(48.002,-24.007) 5(48.002,-8.005) 5(48.002,-64.005) 5(48.002,-56.005) 5(48.002,-40.005) 6(48.002,-16.007) 6(48.002,-48.005) 6(48.002,-32.005) 6(48.002,-0.005) 7(40.002,-16.007) 7(40.002,-48.005) 7(40.002,-32.005) 7(40.002,-0.005) 8(40.002,-24.007) 8(40.002,-8.005) 8(40.002,-64.005) 8(40.002,-56.005) 8(40.002,-40.005) 9(32.002,-24.007) 9(32.002,-8.005) 9(32.002,-64.005) 9(32.002,-56.005) 9(32.002,-40.005) 10(32.002,-16.007) 10(32.002,-48.005) 10(32.002,-32.005) 10(32.002,-0.005) 11(24.002,-16.007) 11(24.002,-48.005) 11(24.002,-32.005) 11(24.002,-0.005) 12(24.002,-24.007) 12(24.002,-8.005) 12(24.002,-64.005) 12(24.002,-56.005) 12(24.002,-40.005) 13(0.002,-64.005) 13(0.002,-56.005) 13(0.002,-48.005) 13(0.002,-40.005) 13(0.002,-32.005) 13(0.002,-24.005) 13(0.002,-16.005) 13(0.002,-8.005) 13(0.002,-0.005) 13(8.002,-64.005) 13(8.002,-56.005) 13(8.002,-48.005) 13(8.002,-40.005) 13(8.002,-32.005) 13(8.002,-24.005) 13(8.002,-16.005) 13(8.002,-8.005) 13(8.002,-0.005) 13(16.002,-48.005) 13(16.002,-32.005) 13(16.002,-24.007) 13(16.002,-16.005) 13(16.002,-8.005) 13(16.002,-64.005) 13(16.002,-56.005) 13(16.002,-40.005) 13(16.002,-0.005)
Top Overlay:
  lines w0.2: -4.953,-68.579 -4.953,4.192 68.961,4.192 68.961,-68.579 -4.953,-68.579
Bottom Overlay:
  lines w0.2: -4.953,-68.58 68.961,-68.58 68.961,4.191 -4.953,4.191 -4.953,-68.58
3D body "DO-214AA.stp": height 2.65, standoff 0, extent 41.142,-66.053 46.742,-62.103
3D body "DO-214AA.stp": height 2.65, standoff 0, extent 32.887,-58.052 38.487,-54.102
3D body "DO-214AA.stp": height 2.65, standoff 0, extent 24.759,-66.18 30.359,-62.23
3D body "DO-214AA.stp": height 2.65, standoff 0, extent 16.758,-58.052 22.358,-54.102
3D body "DO-214AA.stp": height 2.65, standoff 0, extent 9.138,-65.926 14.738,-61.976
3D body "DO-214AA.stp": height 2.65, standoff 0, extent 38.087,-62.871 42.037,-57.271
3D body "DO-214AA.stp": height 2.65, standoff 0, extent 29.705,-63.125 33.655,-57.525
3D body "DO-214AA.stp": height 2.65, standoff 0, extent 21.704,-62.744 25.654,-57.144
3D body "DO-214AA.stp": height 2.65, standoff 0, extent 6.21,-62.744 10.16,-57.144
3D body "DO-214AA.stp": height 2.65, standoff 0, extent 1.01,-57.925 6.61,-53.975
3D body "DO-214AA.stp": height 2.65, standoff 0, extent 53.962,-54.616 57.912,-49.016
3D body "DO-214AA.stp": height 2.65, standoff 0, extent 54.597,-38.868 58.547,-33.268
3D body "DO-214AA.stp": height 2.65, standoff 0, extent 62.09,-46.615 66.04,-41.015
3D body "DO-214AA.stp": height 2.65, standoff 0, extent 62.09,-30.613 66.04,-25.013
3D body "DO-214AA.stp": height 2.65, standoff 0, extent 53.905,-22.883 57.855,-17.283
3D body "DO-214AA.stp": height 2.65, standoff 0, extent 61.779,-14.755 65.729,-9.155
3D body "DO-214AA.stp": height 2.65, standoff 0, extent 49.016,-58.039 54.616,-54.089
3D body "DO-214AA.stp": height 2.65, standoff 0, extent 57.162,-49.981 62.762,-46.031
3D body "DO-214AA.stp": height 2.65, standoff 0, extent 57.035,-41.98 62.635,-38.03
3D body "DO-214AA.stp": height 2.65, standoff 0, extent 57.289,-33.852 62.889,-29.902
3D body "DO-214AA.stp": height 2.65, standoff 0, extent 57.035,-25.724 62.635,-21.774
3D body "DO-214AA.stp": height 2.65, standoff 0, extent 57.289,-18.104 62.889,-14.154
3D body "DO-214AA.stp": height 2.65, standoff 0, extent 57.162,-9.976 62.762,-6.026
3D body "DO-214AA.stp": height 2.65, standoff 0, extent 38.03,-6.754 41.98,-1.154
3D body "DO-214AA.stp": height 2.65, standoff 0, extent 33.159,-1.594 38.759,2.356
3D body "DO-214AA.stp": height 2.65, standoff 0, extent 25.14,-10.032 30.74,-6.082
3D body "DO-214AA.stp": height 2.65, standoff 0, extent 30.156,-6.881 34.106,-1.281
3D body "DO-214AA.stp": height 2.65, standoff 0, extent 17.284,-1.594 22.884,2.356
3D body "DO-214AA.stp": height 2.65, standoff 0, extent 22.028,-6.881 25.978,-1.281
3D body "DO-214AA.stp": height 2.65, standoff 0, extent 9.138,-9.918 14.738,-5.968
3D body "Diode SMA.stp": height 2.41, standoff 0, extent 17.426,-17.398 22.706,-14.478
3D body "DeanTech_UX_F2CL15.STEP": height 2.15, standoff -2.15, extent 30.78,-41.792 48.214,-30.344
3D body "DO-214AA.stp": height 2.65, standoff 0, extent 1.264,-18.047 6.864,-14.097
3D body "DO-214AA.stp": height 2.65, standoff 0, extent 45.961,-62.871 49.911,-57.271
3D body "X150FF3_Diode.STEP": height 2.16, standoff -2.16, extent 14.29,-49.621 25.376,-38.705
3D body "Diode SMA.stp": height 2.41, standoff 0, extent 33.174,-17.271 38.454,-14.351
3D body "DO-214AA.stp": height 2.65, standoff 0, extent 14.154,-7.008 18.104,-1.408
3D body "DO-214AA.stp": height 2.65, standoff 0, extent 6.056,-14.651 10.103,-8.983
3D body "DO-214AA.stp": height 2.65, standoff 0, extent 41.269,-10.045 46.869,-6.095
3D body "Diode SMA.stp": height 2.41, standoff 0, extent 25.427,-25.526 30.707,-22.606
3D body "Diode SMA.stp": height 2.41, standoff 0, extent 38.863,-23.087 41.783,-17.807
3D body "Diode SMA.stp": height 2.41, standoff 0, extent 14.479,-22.578 17.399,-17.298
3D body "Diode SMA.stp": height 2.41, standoff 0, extent 22.607,-22.578 25.527,-17.298
3D body "Diode SMA.stp": height 2.41, standoff 0, extent 30.608,-22.578 33.528,-17.298
3D body "X150FF3_Diode.STEP": height 2.16, standoff -2.16, extent 22.726,-49.855 33.551,-38.689
3D body "DO-214AA.stp": height 2.65, standoff 0, extent 49.016,-2.044 54.616,1.906
3D body "DO-214AA.stp": height 2.65, standoff 0, extent 46.031,-6.5 49.981,-0.9
3D body "DO-214AA.stp": height 2.65, standoff 0, extent 53.905,-6.754 57.855,-1.154
3D body "DO-214AA.stp": height 2.65, standoff 0, extent -1.664,-22.612 2.286,-17.012
3D body "DO-214AA.stp": height 2.65, standoff 0, extent 6.083,-30.867 10.033,-25.267
3D body "DO-214AA.stp": height 2.65, standoff 0, extent -2.172,-38.741 1.778,-33.141
3D body "DO-214AA.stp": height 2.65, standoff 0, extent 5.829,-46.742 9.779,-41.142
3D body "DO-214AA.stp": height 2.65, standoff 0, extent -1.918,-55.378 2.032,-49.778
3D body "DO-214AA.stp": height 2.65, standoff 0, extent 13.957,-62.998 17.907,-57.398
3D body "DO-214AA.stp": height 2.65, standoff 0, extent 0.883,-25.794 6.483,-21.844
3D body "DO-214AA.stp": height 2.65, standoff 0, extent 0.883,-33.541 6.483,-29.591
3D body "DO-214AA.stp": height 2.65, standoff 0, extent 1.137,-42.05 6.737,-38.1
3D body "DO-214AA.stp": height 2.65, standoff 0, extent 1.137,-49.67 6.737,-45.72

## HVDIODEEVA_FULLARRAY_V5 [mm]
pads (370):
  round 0.5 hole 0.794 unplated: 0(0,-26.25) 0(0,-22.75) 0(0,-19.25) 0(0,-15.75) 0(0,-12.25) 0(0,-8.75) 0(0,-5.25) 0(0,-1.75) 0(1.75,-28) 0(1.75,-24.5) 0(1.75,-21) 0(1.75,-17.5) 0(1.75,-14) 0(1.75,-10.5) 0(1.75,-7) 0(1.75,-3.5) 0(1.75,0) 0(3.5,-26.25) 0(3.5,-22.75) 0(3.5,-19.25) 0(3.5,-15.75) 0(3.5,-12.25) 0(3.5,-8.75) 0(3.5,-5.25) 0(3.5,-1.75) 0(5.25,-28) 0(5.25,-24.5) 0(5.25,-21) 0(5.25,-17.5) 0(5.25,-14) 0(5.25,-10.5) 0(5.25,-7) 0(5.25,-3.5) 0(5.25,0) 0(7,-26.25) 0(7,-22.75) 0(7,-19.25) 0(7,-15.75) 0(7,-12.25) 0(7,-8.75) 0(7,-5.25) 0(7,-1.75) 0(8.75,-28) 0(8.75,-24.5) 0(8.75,-21) 0(8.75,-17.5) 0(8.75,-14) 0(8.75,-10.5) 0(8.75,-7) 0(8.75,-3.5) 0(8.75,0) 0(10.5,-26.25) 0(10.5,-22.75) 0(10.5,-19.25) 0(10.5,-15.75) 0(10.5,-12.25) 0(10.5,-8.75) 0(10.5,-5.25) 0(10.5,-1.75) 0(12.25,-28) 0(12.25,-24.5) 0(12.25,-21) 0(12.25,-17.5) 0(12.25,-14) 0(12.25,-10.5) 0(12.25,-7) 0(12.25,-3.5) 0(12.25,0) 0(14,-26.25) 0(14,-22.75) 0(14,-19.25) 0(14,-15.75) 0(14,-12.25) 0(14,-8.75) 0(14,-5.25) 0(14,-1.75) 0(15.75,-28) 0(15.75,-24.5) 0(15.75,-21) 0(15.75,-17.5) 0(15.75,-14) 0(15.75,-10.5) 0(15.75,-7) 0(15.75,-3.5) 0(15.75,0) 0(17.5,-26.25) 0(17.5,-22.75) 0(17.5,-19.25) 0(17.5,-15.75) 0(17.5,-12.25) 0(17.5,-8.75) 0(17.5,-5.25) 0(17.5,-1.75) 0(19.25,-28) 0(19.25,-24.5) 0(19.25,-21) 0(19.25,-17.5) 0(19.25,-14) 0(19.25,-10.5) 0(19.25,-7) 0(19.25,-3.5) 0(19.25,0) 0(21,-26.25) 0(21,-22.75) 0(21,-19.25) 0(21,-15.75) 0(21,-12.25) 0(21,-8.75) 0(21,-5.25) 0(21,-1.75) 0(22.75,-28) 0(22.75,-24.5) 0(22.75,-21) 0(22.75,-17.5) 0(22.75,-14) 0(22.75,-10.5) 0(22.75,-7) 0(22.75,-3.5) 0(22.75,0) 0(24.5,-26.25) 0(24.5,-22.75) 0(24.5,-19.25) 0(24.5,-15.75) 0(24.5,-12.25) 0(24.5,-8.75) 0(24.5,-5.25) 0(24.5,-1.75) 0(26.25,-28) 0(26.25,-24.5) 0(26.25,-21) 0(26.25,-17.5) 0(26.25,-14) 0(26.25,-10.5) 0(26.25,-7) 0(26.25,-3.5) 0(26.25,0) 0(27.94,-26.25) 0(27.94,-22.75) 0(27.94,-19.25) 0(27.94,-15.75) 0(27.94,-12.25) 0(27.94,-8.75) 0(27.94,-5.25) 0(27.94,-1.75)
  round 0.5 hole 2 unplated: 0(1.75,-26.25) 0(1.75,-22.75) 0(1.75,-19.25) 0(1.75,-15.75) 0(1.75,-12.25) 0(1.75,-8.75) 0(1.75,-5.25) 0(1.75,-1.75) 0(5.25,-26.25) 0(5.25,-22.75) 0(5.25,-19.25) 0(5.25,-15.75) 0(5.25,-12.25) 0(5.25,-8.75) 0(5.25,-5.25) 0(5.25,-1.75) 0(8.75,-26.25) 0(8.75,-22.75) 0(8.75,-19.25) 0(8.75,-15.75) 0(8.75,-12.25) 0(8.75,-8.75) 0(8.75,-5.25) 0(8.75,-1.75) 0(12.25,-26.25) 0(12.25,-22.75) 0(12.25,-19.25) 0(12.25,-15.75) 0(12.25,-12.25) 0(12.25,-8.75) 0(12.25,-5.25) 0(12.25,-1.75) 0(15.75,-26.25) 0(15.75,-22.75) 0(15.75,-19.25) 0(15.75,-15.75) 0(15.75,-12.25) 0(15.75,-8.75) 0(15.75,-5.25) 0(15.75,-1.75) 0(19.25,-26.25) 0(19.25,-22.75) 0(19.25,-19.25) 0(19.25,-15.75) 0(19.25,-12.25) 0(19.25,-8.75) 0(19.25,-5.25) 0(19.25,-1.75) 0(22.75,-26.25) 0(22.75,-22.75) 0(22.75,-19.25) 0(22.75,-15.75) 0(22.75,-12.25) 0(22.75,-8.75) 0(22.75,-5.25) 0(22.75,-1.75) 0(26.25,-26.25) 0(26.25,-22.75) 0(26.25,-19.25) 0(26.25,-15.75) 0(26.25,-12.25) 0(26.25,-8.75) 0(26.25,-5.25) 0(26.25,-1.75)
  round 1.5 smd: 2(0,-28) 2(0,-24.5) 2(0,-21) 2(0,-17.5) 2(0,-14) 2(0,-10.5) 2(0,-7) 2(0,-3.5) 2(0,0) 3(3.5,-28) 3(3.5,-24.5) 3(3.5,-21) 3(3.5,-17.5) 3(3.5,-14) 3(3.5,-10.5) 3(3.5,-7) 3(3.5,-3.5) 3(3.5,0) 6(7,-28) 6(7,-24.5) 6(7,-21) 6(7,-17.5) 6(7,-14) 6(7,-10.5) 6(7,-7) 6(7,-3.5) 6(7,0) 7(10.5,-28) 7(10.5,-24.5) 7(10.5,-21) 7(10.5,-17.5) 7(10.5,-14) 7(10.5,-10.5) 7(10.5,-7) 7(10.5,-3.5) 7(10.5,0) 9(14,-28) 9(14,-24.5) 9(14,-21) 9(14,-17.5) 9(14,-14) 9(14,-10.5) 9(14,-7) 9(14,-3.5) 9(14,0) 12(17.5,-28) 12(17.5,-24.5) 12(17.5,-21) 12(17.5,-17.5) 12(17.5,-14) 12(17.5,-10.5) 12(17.5,-7) 12(17.5,-3.5) 12(17.5,0) 13(21,-28) 13(21,-24.5) 13(21,-21) 13(21,-17.5) 13(21,-14) 13(21,-10.5) 13(21,-7) 13(21,-3.5) 13(21,0) 13(24.5,-28) 13(24.5,-24.5) 13(24.5,-21) 13(24.5,-17.5) 13(24.5,-14) 13(24.5,-10.5) 13(24.5,-7) 13(24.5,-3.5) 13(24.5,0) 13(28,-28) 13(28,-24.5) 13(28,-21) 13(28,-17.5) 13(28,-14) 13(28,-10.5) 13(28,-7) 13(28,-3.5) 13(28,0)
  round 1.5 smd far side: 2(28.003,-28) 2(28.003,-24.5) 2(28.003,-21) 2(28.003,-17.5) 2(28.003,-14) 2(28.003,-10.5) 2(28.003,-7) 2(28.003,-3.5) 2(28.003,0) 3(24.503,-28) 3(24.503,-24.5) 3(24.503,-21) 3(24.503,-17.5) 3(24.503,-14) 3(24.503,-10.5) 3(24.503,-7) 3(24.503,-3.5) 3(24.503,0) 6(21.003,-28) 6(21.003,-24.5) 6(21.003,-21) 6(21.003,-17.5) 6(21.003,-14) 6(21.003,-10.5) 6(21.003,-7) 6(21.003,-3.5) 6(21.003,0) 7(17.503,-28) 7(17.503,-24.5) 7(17.503,-21) 7(17.503,-17.5) 7(17.503,-14) 7(17.503,-10.5) 7(17.503,-7) 7(17.503,-3.5) 7(17.503,0) 9(14.003,-28) 9(14.003,-24.5) 9(14.003,-21) 9(14.003,-17.5) 9(14.003,-14) 9(14.003,-10.5) 9(14.003,-7) 9(14.003,-3.5) 9(14.003,0) 12(10.503,-28) 12(10.503,-24.5) 12(10.503,-21) 12(10.503,-17.5) 12(10.503,-14) 12(10.503,-10.5) 12(10.503,-7) 12(10.503,-3.5) 12(10.503,0) 13(0.003,-28) 13(0.003,-24.5) 13(0.003,-21) 13(0.003,-17.5) 13(0.003,-14) 13(0.003,-10.5) 13(0.003,-7) 13(0.003,-3.5) 13(0.003,0) 13(3.503,-28) 13(3.503,-24.5) 13(3.503,-21) 13(3.503,-17.5) 13(3.503,-14) 13(3.503,-10.5) 13(3.503,-7) 13(3.503,-3.5) 13(3.503,0) 13(7.003,-28) 13(7.003,-24.5) 13(7.003,-21) 13(7.003,-17.5) 13(7.003,-14) 13(7.003,-10.5) 13(7.003,-7) 13(7.003,-3.5) 13(7.003,0)
Top Overlay:
  lines w0.2: -1.397,-29.464 29.337,-29.464 29.337,1.778 -1.397,1.778 -1.397,-29.464
Bottom Overlay:
  lines w0.2: -1.397,-29.464 29.337,-29.464 29.337,1.778 -1.397,1.778 -1.397,-29.464
3D body "DO-215AD.stp": height 1.35, standoff 0, extent 23.788,-3.774 25.488,0.076
3D body "DO-215AD.stp": height 1.35, standoff 0, extent 20.935,-0.286 24.785,1.414
3D body "DO-215AD.stp": height 1.35, standoff 0, extent 20.232,-3.774 21.932,0.076
3D body "DO-215AD.stp": height 1.35, standoff 0, extent 17.379,-4.985 21.229,-3.285
3D body "DO-215AD.stp": height 1.35, standoff 0, extent 16.676,-3.774 18.376,0.076
3D body "DO-215AD.stp": height 1.35, standoff 0, extent 13.823,-0.286 17.673,1.414
3D body "DO-215AD.stp": height 1.35, standoff 0, extent 13.159,-3.901 14.859,-0.051
3D body "ROHM_TUMD2SM.STEP": height 0.8, standoff 0, extent 9.735,-3.143 11.235,-0.543
3D body "ROHM_TUMD2SM.STEP": height 0.8, standoff 0, extent 6.306,-3.143 7.806,-0.543
3D body "ROHM_TUMD2SM.STEP": height 0.8, standoff 0, extent -0.75,-3.022 0.75,-0.422
3D body "ROHM_TUMD2SM.STEP": height 0.8, standoff 0, extent 0.422,-0.688 3.022,0.812
3D body "ROHM_TUMD2SM.STEP": height 0.8, standoff 0, extent 2.75,-3.143 4.25,-0.543
3D body "ROHM_TUMD2SM.STEP": height 0.8, standoff 0, extent 7.534,-0.688 10.134,0.812
3D body "DO-215AD.stp": height 1.35, standoff 0, extent 3.486,-10.783 7.436,-6.885
3D body "DO-215AD.stp": height 1.35, standoff 0, extent -0.07,-10.782 3.88,-6.885
3D body "DO-215AD.stp": height 1.35, standoff 0, extent -0.094,-14.056 3.905,-10.216
3D body "DO-215AD.stp": height 1.35, standoff 0, extent 3.486,-14.212 7.436,-10.314
3D body "ROHM_TUMD2SM.STEP": height 0.8, standoff 0, extent 3.851,-4.371 6.451,-2.871